# Altium footprint library Battery.PcbLib: 1 footprints
Each footprint in its own frame and in the unit in brackets; x right, y up, seen from the top. Pads: shape width x height; smd on the part's side, far side on the other; paste and mask are expansions set on the pad; w line width, h text height; cw(c..) or ccw(c..) is an arc to the next point about the centre after c.
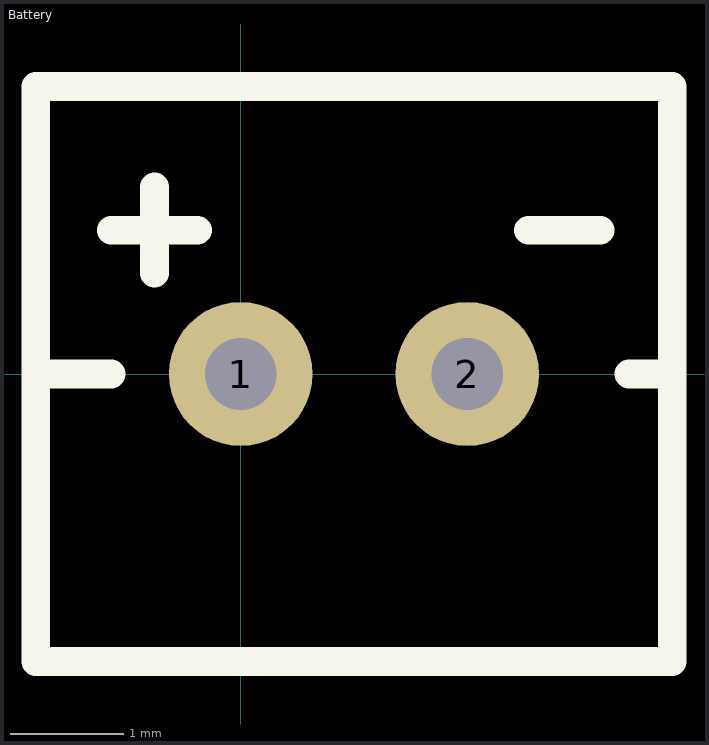
[diagram p0: the footprint, top view; thin cyan lines are the x and y axes]

## Battery [mm]
pads (2):
  round 1.27 hole 0.635: 1(0,0) 2(2,0)
Top Overlay:
  lines w0.254: -1.81,0 -1.143,0 ; -1.143,1.27 -0.381,1.27 ; -0.762,0.889 -0.762,1.651 ; 2.54,1.27 3.175,1.27 ; 3.429,0 3.81,0 ; 3.81,0 3.81,2.54 -1.81,2.54 -1.81,-2.54 3.81,-2.54 3.81,0